# EAGLE library part MPU-9150 (library arducorder-mini)
Invensense MPU-9150 9-Axis Inertial Measurement Unit (Accelerometer, Gyroscope, and Magnetometer) with Digital I2C Interface
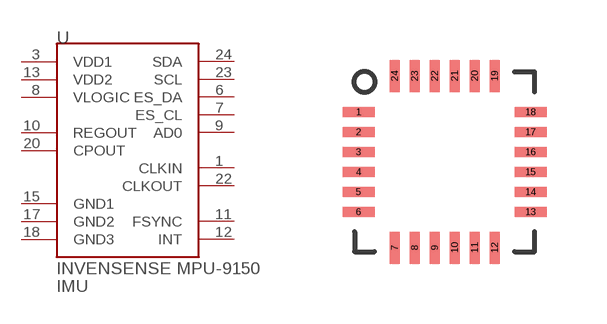
[diagram p25: symbol with the pads of LGA-24-(4X4MM); footprint LGA-24-(4X4MM)]

Designator prefix -

## MPU-9150  [LGA-24-(4X4MM)]
1  CLKIN
3  VDD1
6  ES_DA
7  ES_CL
8  VLOGIC
9  AD0
10  REGOUT
11  FSYNC
12  INT
13  VDD2
15  GND1
17  GND2
18  GND3
20  CPOUT
22  CLKOUT
23  SCL
24  SDA

## Footprint LGA-24-(4X4MM) (pad centres in mm)
smd 0.8 x 0.25: 1 -2.15,1.25; 2 -2.15,0.75; 3 -2.15,0.25; 4 -2.15,-0.25; 5 -2.15,-0.75; 6 -2.15,-1.25; 13 2.15,-1.25; 14 2.15,-0.75; 15 2.15,-0.25; 16 2.15,0.25; 17 2.15,0.75; 18 2.15,1.25
smd 0.25 x 0.8: 7 -1.25,-2.15; 8 -0.75,-2.15; 9 -0.25,-2.15; 10 0.25,-2.15; 11 0.75,-2.15; 12 1.25,-2.15; 19 1.25,2.15; 20 0.75,2.15; 21 0.25,2.15; 22 -0.25,2.15; 23 -0.75,2.15; 24 -1.25,2.15